# Altium footprint library PcbLib1.PcbLib: 90 footprints (part 2 of 6)
Each footprint in its own frame and in the unit in brackets; x right, y up, seen from the top. Pads: shape width x height; smd on the part's side, far side on the other; paste and mask are expansions set on the pad; w line width, h text height; cw(c..) or ccw(c..) is an arc to the next point about the centre after c.
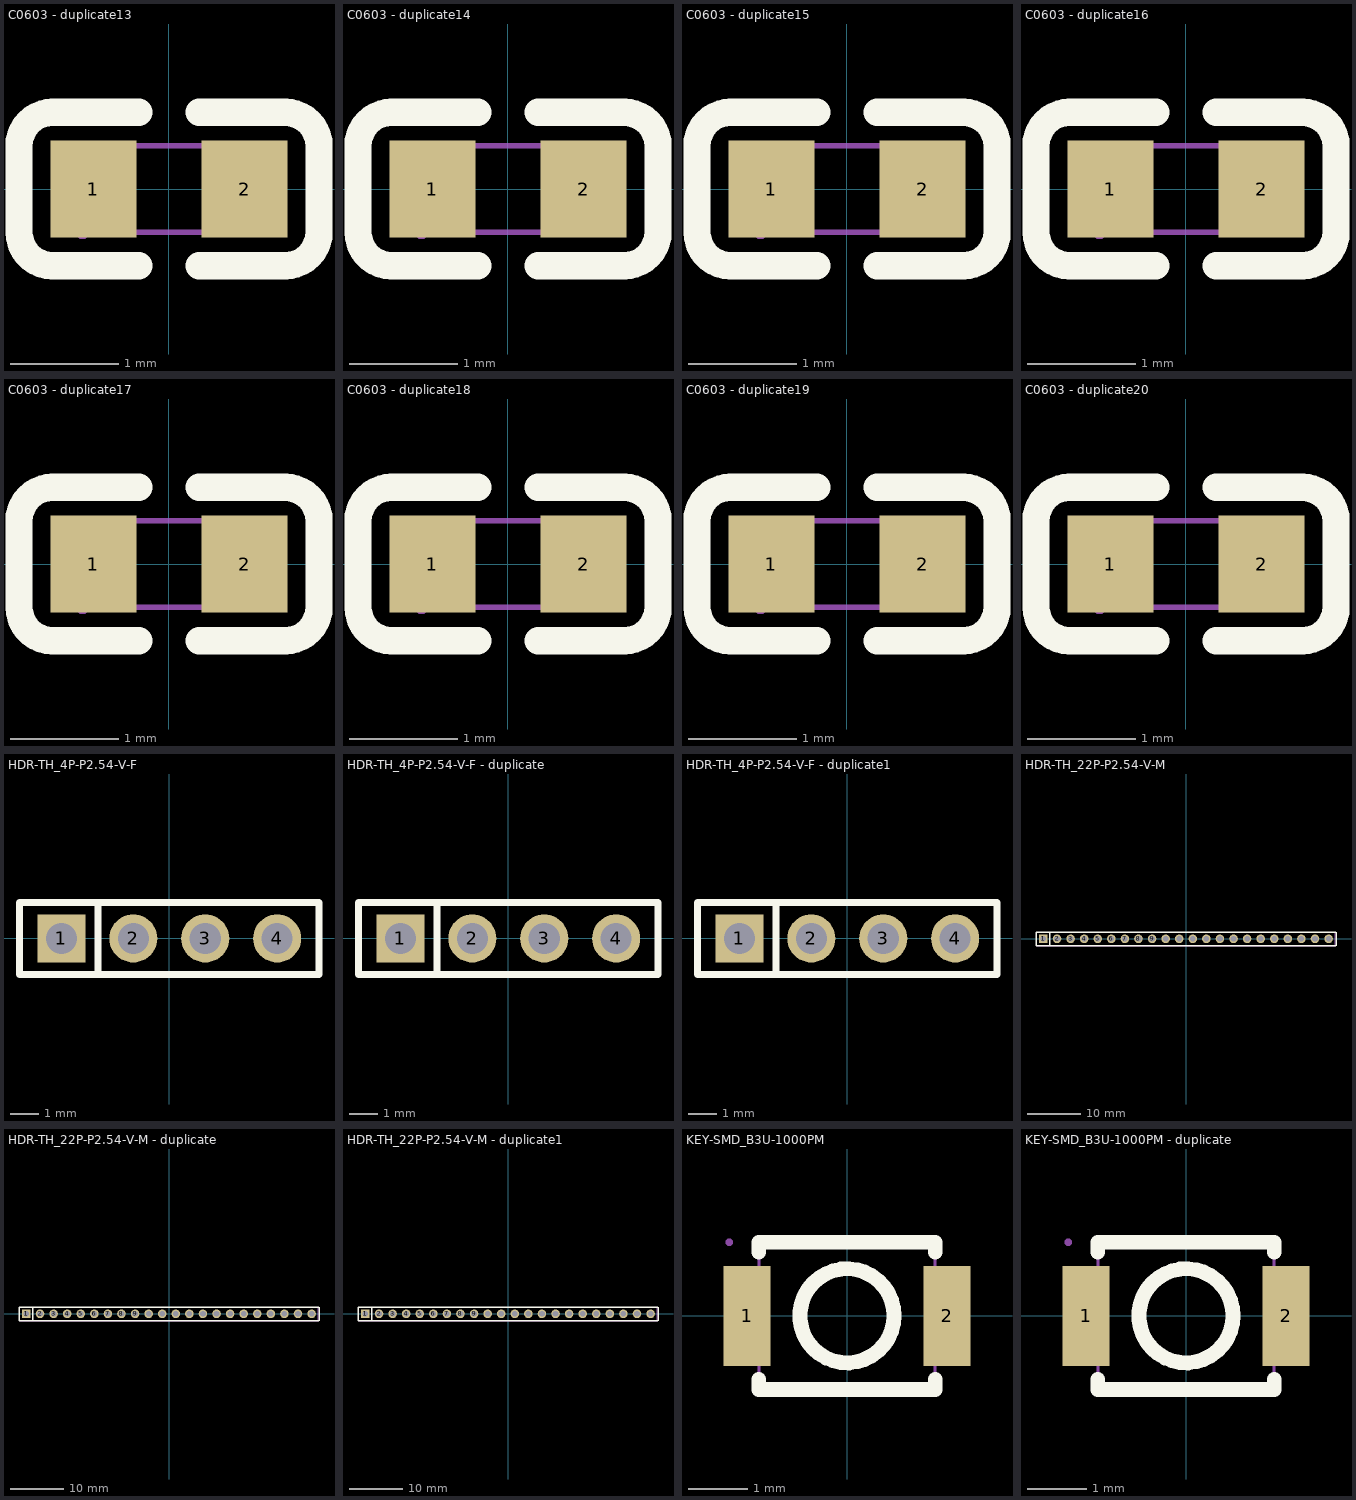
[diagram p1: the footprints below, top view; thin cyan lines are the x and y axes]

## C0603 - duplicate13 [mm]
pads (2):
  rect 0.8x0.9 smd paste+0.051: 1(-0.7,0) 2(0.7,0)
Top Overlay:
  lines w0.254: -1.08,-0.71 -0.28,-0.71 ; -1.08,0.71 -0.28,0.71 ; -1.08,-0.71 cw(c-1.08,-0.4) -1.39,-0.4 -1.39,0.4 cw(c-1.08,0.4) -1.08,0.71 ; 0.28,-0.71 1.08,-0.71 ccw(c1.08,-0.4) 1.39,-0.4 1.39,0.4 ccw(c1.08,0.4) 1.08,0.71 0.28,0.71
Mechanical 7:
  lines w0.051: -0.8,-0.4 0.8,-0.4 0.8,0.4 -0.8,0.4 -0.8,-0.4
Mechanical 8:
  region: -0.74,-0.4 -0.74,-0.425 -0.775,-0.46 -0.825,-0.46 -0.86,-0.425 -0.86,-0.4 -0.86,-0.375 -0.825,-0.34 -0.775,-0.34 -0.74,-0.375
Mechanical 9:
  region: 0.8,-0.4 0.8,0.4 0.5,0.4 0.5,-0.4
  region: -0.8,-0.4 -0.8,0.4 -0.5,0.4 -0.5,-0.4

## C0603 - duplicate14 [mm]
pads (2):
  rect 0.8x0.9 smd paste+0.051: 1(-0.7,0) 2(0.7,0)
Top Overlay:
  lines w0.254: -1.08,-0.71 -0.28,-0.71 ; -1.08,0.71 -0.28,0.71 ; -1.08,-0.71 cw(c-1.08,-0.4) -1.39,-0.4 -1.39,0.4 cw(c-1.08,0.4) -1.08,0.71 ; 0.28,-0.71 1.08,-0.71 ccw(c1.08,-0.4) 1.39,-0.4 1.39,0.4 ccw(c1.08,0.4) 1.08,0.71 0.28,0.71
Mechanical 7:
  lines w0.051: -0.8,-0.4 0.8,-0.4 0.8,0.4 -0.8,0.4 -0.8,-0.4
Mechanical 8:
  region: -0.74,-0.4 -0.74,-0.425 -0.775,-0.46 -0.825,-0.46 -0.86,-0.425 -0.86,-0.4 -0.86,-0.375 -0.825,-0.34 -0.775,-0.34 -0.74,-0.375
Mechanical 9:
  region: 0.8,-0.4 0.8,0.4 0.5,0.4 0.5,-0.4
  region: -0.8,-0.4 -0.8,0.4 -0.5,0.4 -0.5,-0.4

## C0603 - duplicate15 [mm]
pads (2):
  rect 0.8x0.9 smd paste+0.051: 1(-0.7,0) 2(0.7,0)
Top Overlay:
  lines w0.254: -1.08,-0.71 -0.28,-0.71 ; -1.08,0.71 -0.28,0.71 ; -1.08,-0.71 cw(c-1.08,-0.4) -1.39,-0.4 -1.39,0.4 cw(c-1.08,0.4) -1.08,0.71 ; 0.28,-0.71 1.08,-0.71 ccw(c1.08,-0.4) 1.39,-0.4 1.39,0.4 ccw(c1.08,0.4) 1.08,0.71 0.28,0.71
Mechanical 7:
  lines w0.051: -0.8,-0.4 0.8,-0.4 0.8,0.4 -0.8,0.4 -0.8,-0.4
Mechanical 8:
  region: -0.74,-0.4 -0.74,-0.425 -0.775,-0.46 -0.825,-0.46 -0.86,-0.425 -0.86,-0.4 -0.86,-0.375 -0.825,-0.34 -0.775,-0.34 -0.74,-0.375
Mechanical 9:
  region: 0.8,-0.4 0.8,0.4 0.5,0.4 0.5,-0.4
  region: -0.8,-0.4 -0.8,0.4 -0.5,0.4 -0.5,-0.4

## C0603 - duplicate16 [mm]
pads (2):
  rect 0.8x0.9 smd paste+0.051: 1(-0.7,0) 2(0.7,0)
Top Overlay:
  lines w0.254: -1.08,-0.71 -0.28,-0.71 ; -1.08,0.71 -0.28,0.71 ; -1.08,-0.71 cw(c-1.08,-0.4) -1.39,-0.4 -1.39,0.4 cw(c-1.08,0.4) -1.08,0.71 ; 0.28,-0.71 1.08,-0.71 ccw(c1.08,-0.4) 1.39,-0.4 1.39,0.4 ccw(c1.08,0.4) 1.08,0.71 0.28,0.71
Mechanical 7:
  lines w0.051: -0.8,-0.4 0.8,-0.4 0.8,0.4 -0.8,0.4 -0.8,-0.4
Mechanical 8:
  region: -0.74,-0.4 -0.74,-0.425 -0.775,-0.46 -0.825,-0.46 -0.86,-0.425 -0.86,-0.4 -0.86,-0.375 -0.825,-0.34 -0.775,-0.34 -0.74,-0.375
Mechanical 9:
  region: 0.8,-0.4 0.8,0.4 0.5,0.4 0.5,-0.4
  region: -0.8,-0.4 -0.8,0.4 -0.5,0.4 -0.5,-0.4

## C0603 - duplicate17 [mm]
pads (2):
  rect 0.8x0.9 smd paste+0.051: 1(-0.7,0) 2(0.7,0)
Top Overlay:
  lines w0.254: -1.08,-0.71 -0.28,-0.71 ; -1.08,0.71 -0.28,0.71 ; -1.08,-0.71 cw(c-1.08,-0.4) -1.39,-0.4 -1.39,0.4 cw(c-1.08,0.4) -1.08,0.71 ; 0.28,-0.71 1.08,-0.71 ccw(c1.08,-0.4) 1.39,-0.4 1.39,0.4 ccw(c1.08,0.4) 1.08,0.71 0.28,0.71
Mechanical 7:
  lines w0.051: -0.8,-0.4 0.8,-0.4 0.8,0.4 -0.8,0.4 -0.8,-0.4
Mechanical 8:
  region: -0.74,-0.4 -0.74,-0.425 -0.775,-0.46 -0.825,-0.46 -0.86,-0.425 -0.86,-0.4 -0.86,-0.375 -0.825,-0.34 -0.775,-0.34 -0.74,-0.375
Mechanical 9:
  region: 0.8,-0.4 0.8,0.4 0.5,0.4 0.5,-0.4
  region: -0.8,-0.4 -0.8,0.4 -0.5,0.4 -0.5,-0.4

## C0603 - duplicate18 [mm]
pads (2):
  rect 0.8x0.9 smd paste+0.051: 1(-0.7,0) 2(0.7,0)
Top Overlay:
  lines w0.254: -1.08,-0.71 -0.28,-0.71 ; -1.08,0.71 -0.28,0.71 ; -1.08,-0.71 cw(c-1.08,-0.4) -1.39,-0.4 -1.39,0.4 cw(c-1.08,0.4) -1.08,0.71 ; 0.28,-0.71 1.08,-0.71 ccw(c1.08,-0.4) 1.39,-0.4 1.39,0.4 ccw(c1.08,0.4) 1.08,0.71 0.28,0.71
Mechanical 7:
  lines w0.051: -0.8,-0.4 0.8,-0.4 0.8,0.4 -0.8,0.4 -0.8,-0.4
Mechanical 8:
  region: -0.74,-0.4 -0.74,-0.425 -0.775,-0.46 -0.825,-0.46 -0.86,-0.425 -0.86,-0.4 -0.86,-0.375 -0.825,-0.34 -0.775,-0.34 -0.74,-0.375
Mechanical 9:
  region: 0.8,-0.4 0.8,0.4 0.5,0.4 0.5,-0.4
  region: -0.8,-0.4 -0.8,0.4 -0.5,0.4 -0.5,-0.4

## C0603 - duplicate19 [mm]
pads (2):
  rect 0.8x0.9 smd paste+0.051: 1(-0.7,0) 2(0.7,0)
Top Overlay:
  lines w0.254: -1.08,-0.71 -0.28,-0.71 ; -1.08,0.71 -0.28,0.71 ; -1.08,-0.71 cw(c-1.08,-0.4) -1.39,-0.4 -1.39,0.4 cw(c-1.08,0.4) -1.08,0.71 ; 0.28,-0.71 1.08,-0.71 ccw(c1.08,-0.4) 1.39,-0.4 1.39,0.4 ccw(c1.08,0.4) 1.08,0.71 0.28,0.71
Mechanical 7:
  lines w0.051: -0.8,-0.4 0.8,-0.4 0.8,0.4 -0.8,0.4 -0.8,-0.4
Mechanical 8:
  region: -0.74,-0.4 -0.74,-0.425 -0.775,-0.46 -0.825,-0.46 -0.86,-0.425 -0.86,-0.4 -0.86,-0.375 -0.825,-0.34 -0.775,-0.34 -0.74,-0.375
Mechanical 9:
  region: 0.8,-0.4 0.8,0.4 0.5,0.4 0.5,-0.4
  region: -0.8,-0.4 -0.8,0.4 -0.5,0.4 -0.5,-0.4

## C0603 - duplicate20 [mm]
pads (2):
  rect 0.8x0.9 smd paste+0.051: 1(-0.7,0) 2(0.7,0)
Top Overlay:
  lines w0.254: -1.08,-0.71 -0.28,-0.71 ; -1.08,0.71 -0.28,0.71 ; -1.08,-0.71 cw(c-1.08,-0.4) -1.39,-0.4 -1.39,0.4 cw(c-1.08,0.4) -1.08,0.71 ; 0.28,-0.71 1.08,-0.71 ccw(c1.08,-0.4) 1.39,-0.4 1.39,0.4 ccw(c1.08,0.4) 1.08,0.71 0.28,0.71
Mechanical 7:
  lines w0.051: -0.8,-0.4 -0.8,0.4 0.8,0.4 0.8,-0.4 -0.8,-0.4
Mechanical 8:
  region: -0.74,-0.4 -0.74,-0.425 -0.775,-0.46 -0.825,-0.46 -0.86,-0.425 -0.86,-0.4 -0.86,-0.375 -0.825,-0.34 -0.775,-0.34 -0.74,-0.375
Mechanical 9:
  region: -0.8,-0.4 -0.8,0.4 -0.5,0.4 -0.5,-0.4
  region: 0.8,-0.4 0.8,0.4 0.5,0.4 0.5,-0.4

## HDR-TH_4P-P2.54-V-F [mm]
pads (4):
  rect 1.7x1.7 hole 1.1 paste-2539.97: 1(-3.81,0)
  round 1.7 hole 1.1 paste-2539.97: 2(-1.27,0) 3(1.27,0) 4(3.81,0)
Top Overlay:
  lines w0.254: -2.516,-1.27 -2.516,1.27 ; -5.29,-1.27 -5.29,1.27 5.29,1.27 5.29,-1.27 -5.29,-1.27
Mechanical 7:
  lines w0.051: -5.25,-1.25 -5.25,1.25 5.25,1.25 5.25,-1.25 -5.25,-1.25
Mechanical 8:
  region: -5.19,-1.25 -5.19,-1.275 -5.225,-1.31 -5.275,-1.31 -5.31,-1.275 -5.31,-1.25 -5.31,-1.225 -5.275,-1.19 -5.225,-1.19 -5.19,-1.225
Mechanical 9:
  region: -4.13,0.15 -3.49,0.15 -3.49,-0.15 -4.13,-0.15
  region: -1.59,0.15 -0.95,0.15 -0.95,-0.15 -1.59,-0.15
  region: 0.95,0.15 1.59,0.15 1.59,-0.15 0.95,-0.15
  region: 3.49,0.15 4.13,0.15 4.13,-0.15 3.49,-0.15

## HDR-TH_4P-P2.54-V-F - duplicate [mm]
pads (4):
  rect 1.7x1.7 hole 1.1 paste-2539.97: 1(-3.81,0)
  round 1.7 hole 1.1 paste-2539.97: 2(-1.27,0) 3(1.27,0) 4(3.81,0)
Top Overlay:
  lines w0.254: -2.516,-1.27 -2.516,1.27 ; -5.29,-1.27 -5.29,1.27 5.29,1.27 5.29,-1.27 -5.29,-1.27
Mechanical 7:
  lines w0.051: -5.25,-1.25 -5.25,1.25 5.25,1.25 5.25,-1.25 -5.25,-1.25
Mechanical 8:
  region: -5.19,-1.25 -5.19,-1.275 -5.225,-1.31 -5.275,-1.31 -5.31,-1.275 -5.31,-1.25 -5.31,-1.225 -5.275,-1.19 -5.225,-1.19 -5.19,-1.225
Mechanical 9:
  region: -4.13,0.15 -3.49,0.15 -3.49,-0.15 -4.13,-0.15
  region: -1.59,0.15 -0.95,0.15 -0.95,-0.15 -1.59,-0.15
  region: 0.95,0.15 1.59,0.15 1.59,-0.15 0.95,-0.15
  region: 3.49,0.15 4.13,0.15 4.13,-0.15 3.49,-0.15

## HDR-TH_4P-P2.54-V-F - duplicate1 [mm]
pads (4):
  rect 1.7x1.7 hole 1.1 paste-2539.97: 1(-3.81,0)
  round 1.7 hole 1.1 paste-2539.97: 2(-1.27,0) 3(1.27,0) 4(3.81,0)
Top Overlay:
  lines w0.254: -2.516,-1.27 -2.516,1.27 ; -5.29,-1.27 -5.29,1.27 5.29,1.27 5.29,-1.27 -5.29,-1.27
Mechanical 7:
  lines w0.051: -5.25,-1.25 -5.25,1.25 5.25,1.25 5.25,-1.25 -5.25,-1.25
Mechanical 8:
  region: -5.19,-1.25 -5.19,-1.275 -5.225,-1.31 -5.275,-1.31 -5.31,-1.275 -5.31,-1.25 -5.31,-1.225 -5.275,-1.19 -5.225,-1.19 -5.19,-1.225
Mechanical 9:
  region: -4.13,0.15 -3.49,0.15 -3.49,-0.15 -4.13,-0.15
  region: -1.59,0.15 -0.95,0.15 -0.95,-0.15 -1.59,-0.15
  region: 0.95,0.15 1.59,0.15 1.59,-0.15 0.95,-0.15
  region: 3.49,0.15 4.13,0.15 4.13,-0.15 3.49,-0.15

## HDR-TH_22P-P2.54-V-M [mm]
pads (22):
  rect 1.6x1.6 hole 1.05 paste-2539.97: 1(-26.67,0)
  round 1.6 hole 1.05 paste-2539.97: 2(-24.13,0) 3(-21.59,0) 4(-19.05,0) 5(-16.51,0) 6(-13.97,0) 7(-11.43,0) 8(-8.89,0) 9(-6.35,0) 10(-3.81,0) 11(-1.27,0) 12(1.27,0) 13(3.81,0) 14(6.35,0) 15(8.89,0) 16(11.43,0) 17(13.97,0) 18(16.51,0) 19(19.05,0) 20(21.59,0) 21(24.13,0) 22(26.67,0)
Top Overlay:
  lines w0.254: -25.492,-1.25 -25.492,1.25 ; 28.03,-1.25 -28.06,-1.25 -28.06,1.25 28.03,1.25 ; 28.06,-1.25 28.06,1.25
Mechanical 7:
  lines w0.051: -27.94,-1.27 27.94,-1.27 27.94,1.27 -27.94,1.27 -27.94,-1.27
Mechanical 8:
  region: -27.88,-1.27 -27.88,-1.295 -27.915,-1.33 -27.965,-1.33 -28,-1.295 -28,-1.27 -28,-1.245 -27.965,-1.21 -27.915,-1.21 -27.88,-1.245
Mechanical 9:
  region: 26.35,0.32 26.99,0.32 26.99,-0.32 26.35,-0.32
  region: 23.81,0.32 24.45,0.32 24.45,-0.32 23.81,-0.32
  region: 21.27,0.32 21.91,0.32 21.91,-0.32 21.27,-0.32
  region: 18.73,0.32 19.37,0.32 19.37,-0.32 18.73,-0.32
  region: 16.19,0.32 16.83,0.32 16.83,-0.32 16.19,-0.32
  region: 13.65,0.32 14.29,0.32 14.29,-0.32 13.65,-0.32
  region: 11.11,0.32 11.75,0.32 11.75,-0.32 11.11,-0.32
  region: 8.57,0.32 9.21,0.32 9.21,-0.32 8.57,-0.32
  region: 6.03,0.32 6.67,0.32 6.67,-0.32 6.03,-0.32
  region: 3.49,0.32 4.13,0.32 4.13,-0.32 3.49,-0.32
  region: 0.95,0.32 1.59,0.32 1.59,-0.32 0.95,-0.32
  region: -1.59,0.32 -0.95,0.32 -0.95,-0.32 -1.59,-0.32
  region: -4.13,0.32 -3.49,0.32 -3.49,-0.32 -4.13,-0.32
  region: -6.67,0.32 -6.03,0.32 -6.03,-0.32 -6.67,-0.32
  region: -9.21,0.32 -8.57,0.32 -8.57,-0.32 -9.21,-0.32
  region: -11.75,0.32 -11.11,0.32 -11.11,-0.32 -11.75,-0.32
  region: -14.29,0.32 -13.65,0.32 -13.65,-0.32 -14.29,-0.32
  region: -16.83,0.32 -16.19,0.32 -16.19,-0.32 -16.83,-0.32
  region: -19.37,0.32 -18.73,0.32 -18.73,-0.32 -19.37,-0.32
  region: -21.91,0.32 -21.27,0.32 -21.27,-0.32 -21.91,-0.32
  region: -24.45,0.32 -23.81,0.32 -23.81,-0.32 -24.45,-0.32
  region: -26.99,0.32 -26.35,0.32 -26.35,-0.32 -26.99,-0.32

## HDR-TH_22P-P2.54-V-M - duplicate [mm]
pads (22):
  rect 1.6x1.6 hole 1.05 paste-2539.97: 1(-26.67,0)
  round 1.6 hole 1.05 paste-2539.97: 2(-24.13,0) 3(-21.59,0) 4(-19.05,0) 5(-16.51,0) 6(-13.97,0) 7(-11.43,0) 8(-8.89,0) 9(-6.35,0) 10(-3.81,0) 11(-1.27,0) 12(1.27,0) 13(3.81,0) 14(6.35,0) 15(8.89,0) 16(11.43,0) 17(13.97,0) 18(16.51,0) 19(19.05,0) 20(21.59,0) 21(24.13,0) 22(26.67,0)
Top Overlay:
  lines w0.254: -25.492,-1.25 -25.492,1.25 ; 28.03,-1.25 -28.06,-1.25 -28.06,1.25 28.03,1.25 ; 28.06,-1.25 28.06,1.25
Mechanical 7:
  lines w0.051: -27.94,-1.27 -27.94,1.27 27.94,1.27 27.94,-1.27 -27.94,-1.27
Mechanical 8:
  region: -28,-1.27 -28,-1.245 -27.965,-1.21 -27.915,-1.21 -27.88,-1.245 -27.88,-1.27 -27.88,-1.295 -27.915,-1.33 -27.965,-1.33 -28,-1.295
Mechanical 9:
  region: -26.99,0.32 -26.35,0.32 -26.35,-0.32 -26.99,-0.32
  region: -24.45,0.32 -23.81,0.32 -23.81,-0.32 -24.45,-0.32
  region: -21.91,0.32 -21.27,0.32 -21.27,-0.32 -21.91,-0.32
  region: -19.37,0.32 -18.73,0.32 -18.73,-0.32 -19.37,-0.32
  region: -16.83,0.32 -16.19,0.32 -16.19,-0.32 -16.83,-0.32
  region: -14.29,0.32 -13.65,0.32 -13.65,-0.32 -14.29,-0.32
  region: -11.75,0.32 -11.11,0.32 -11.11,-0.32 -11.75,-0.32
  region: -9.21,0.32 -8.57,0.32 -8.57,-0.32 -9.21,-0.32
  region: -6.67,0.32 -6.03,0.32 -6.03,-0.32 -6.67,-0.32
  region: -4.13,0.32 -3.49,0.32 -3.49,-0.32 -4.13,-0.32
  region: -1.59,0.32 -0.95,0.32 -0.95,-0.32 -1.59,-0.32
  region: 0.95,0.32 1.59,0.32 1.59,-0.32 0.95,-0.32
  region: 3.49,0.32 4.13,0.32 4.13,-0.32 3.49,-0.32
  region: 6.03,0.32 6.67,0.32 6.67,-0.32 6.03,-0.32
  region: 8.57,0.32 9.21,0.32 9.21,-0.32 8.57,-0.32
  region: 11.11,0.32 11.75,0.32 11.75,-0.32 11.11,-0.32
  region: 13.65,0.32 14.29,0.32 14.29,-0.32 13.65,-0.32
  region: 16.19,0.32 16.83,0.32 16.83,-0.32 16.19,-0.32
  region: 18.73,0.32 19.37,0.32 19.37,-0.32 18.73,-0.32
  region: 21.27,0.32 21.91,0.32 21.91,-0.32 21.27,-0.32
  region: 23.81,0.32 24.45,0.32 24.45,-0.32 23.81,-0.32
  region: 26.35,0.32 26.99,0.32 26.99,-0.32 26.35,-0.32

## HDR-TH_22P-P2.54-V-M - duplicate1 [mm]
pads (22):
  rect 1.6x1.6 hole 1.05 paste-2539.97: 1(-26.67,0)
  round 1.6 hole 1.05 paste-2539.97: 2(-24.13,0) 3(-21.59,0) 4(-19.05,0) 5(-16.51,0) 6(-13.97,0) 7(-11.43,0) 8(-8.89,0) 9(-6.35,0) 10(-3.81,0) 11(-1.27,0) 12(1.27,0) 13(3.81,0) 14(6.35,0) 15(8.89,0) 16(11.43,0) 17(13.97,0) 18(16.51,0) 19(19.05,0) 20(21.59,0) 21(24.13,0) 22(26.67,0)
Top Overlay:
  lines w0.254: -25.492,-1.25 -25.492,1.25 ; 28.03,-1.25 -28.06,-1.25 -28.06,1.25 28.03,1.25 ; 28.06,-1.25 28.06,1.25
Mechanical 7:
  lines w0.051: -27.94,-1.27 -27.94,1.27 27.94,1.27 27.94,-1.27 -27.94,-1.27
Mechanical 8:
  region: -27.88,-1.27 -27.88,-1.295 -27.915,-1.33 -27.965,-1.33 -28,-1.295 -28,-1.27 -28,-1.245 -27.965,-1.21 -27.915,-1.21 -27.88,-1.245
Mechanical 9:
  region: -26.99,0.32 -26.35,0.32 -26.35,-0.32 -26.99,-0.32
  region: -24.45,0.32 -23.81,0.32 -23.81,-0.32 -24.45,-0.32
  region: -21.91,0.32 -21.27,0.32 -21.27,-0.32 -21.91,-0.32
  region: -19.37,0.32 -18.73,0.32 -18.73,-0.32 -19.37,-0.32
  region: -16.83,0.32 -16.19,0.32 -16.19,-0.32 -16.83,-0.32
  region: -14.29,0.32 -13.65,0.32 -13.65,-0.32 -14.29,-0.32
  region: -11.75,0.32 -11.11,0.32 -11.11,-0.32 -11.75,-0.32
  region: -9.21,0.32 -8.57,0.32 -8.57,-0.32 -9.21,-0.32
  region: -6.67,0.32 -6.03,0.32 -6.03,-0.32 -6.67,-0.32
  region: -4.13,0.32 -3.49,0.32 -3.49,-0.32 -4.13,-0.32
  region: -1.59,0.32 -0.95,0.32 -0.95,-0.32 -1.59,-0.32
  region: 0.95,0.32 1.59,0.32 1.59,-0.32 0.95,-0.32
  region: 3.49,0.32 4.13,0.32 4.13,-0.32 3.49,-0.32
  region: 6.03,0.32 6.67,0.32 6.67,-0.32 6.03,-0.32
  region: 8.57,0.32 9.21,0.32 9.21,-0.32 8.57,-0.32
  region: 11.11,0.32 11.75,0.32 11.75,-0.32 11.11,-0.32
  region: 13.65,0.32 14.29,0.32 14.29,-0.32 13.65,-0.32
  region: 16.19,0.32 16.83,0.32 16.83,-0.32 16.19,-0.32
  region: 18.73,0.32 19.37,0.32 19.37,-0.32 18.73,-0.32
  region: 21.27,0.32 21.91,0.32 21.91,-0.32 21.27,-0.32
  region: 23.81,0.32 24.45,0.32 24.45,-0.32 23.81,-0.32
  region: 26.35,0.32 26.99,0.32 26.99,-0.32 26.35,-0.32

## KEY-SMD_B3U-1000PM [mm]
pads (2):
  rect 0.8x1.7 smd paste+0.051: 1(-1.7,0) 2(1.7,0)
Top Overlay:
  circle w0.254: c0,0 r0.8
  lines w0.254: -1.5,-1.087 -1.5,-1.25 ; -1.5,1.081 -1.5,1.25 ; 1.5,-1.081 1.5,-1.25 ; 1.5,1.081 1.5,1.25 ; -1.5,-1.25 1.5,-1.25 ; -1.5,-1.25 1.5,-1.25 ; -1.5,1.25 1.5,1.25 ; -1.5,1.25 1.5,1.25
Mechanical 7:
  lines w0.051: -1.5,-1.25 1.5,-1.25 1.5,1.25 -1.5,1.25 -1.5,-1.25
Mechanical 8:
  region: -1.94,1.25 -1.94,1.225 -1.975,1.19 -2.025,1.19 -2.06,1.225 -2.06,1.25 -2.06,1.275 -2.025,1.31 -1.975,1.31 -1.94,1.275
Mechanical 9:
  region: -2,-0.7 -2,0.7 -1.4,0.7 -1.4,-0.7
  region: 1.4,-0.7 1.4,0.7 2,0.7 2,-0.7

## KEY-SMD_B3U-1000PM - duplicate [mm]
pads (2):
  rect 0.8x1.7 smd paste+0.051: 1(-1.7,0) 2(1.7,0)
Top Overlay:
  circle w0.254: c0,0 r0.8
  lines w0.254: -1.5,-1.087 -1.5,-1.25 ; -1.5,1.081 -1.5,1.25 ; 1.5,-1.081 1.5,-1.25 ; 1.5,1.081 1.5,1.25 ; -1.5,-1.25 1.5,-1.25 ; -1.5,-1.25 1.5,-1.25 ; -1.5,1.25 1.5,1.25 ; -1.5,1.25 1.5,1.25
Mechanical 7:
  lines w0.051: -1.5,-1.25 1.5,-1.25 1.5,1.25 -1.5,1.25 -1.5,-1.25
Mechanical 8:
  region: -1.94,1.25 -1.94,1.225 -1.975,1.19 -2.025,1.19 -2.06,1.225 -2.06,1.25 -2.06,1.275 -2.025,1.31 -1.975,1.31 -1.94,1.275
Mechanical 9:
  region: -2,-0.7 -2,0.7 -1.4,0.7 -1.4,-0.7
  region: 1.4,-0.7 1.4,0.7 2,0.7 2,-0.7